# EAGLE library part WM8731_JMP/6P/DIP (library VGA_sound)
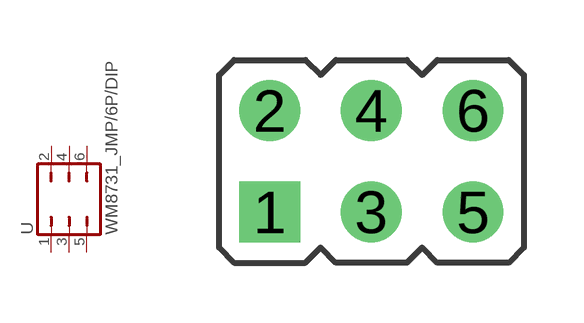
[diagram p4: symbol with the pads of WM8731_JMP/6P/DIP; footprint WM8731_JMP/6P/DIP]

Designator prefix -

## WM8731_JMP/6P/DIP  [WM8731_JMP/6P/DIP]
1  1  pas
2  2  pas
3  3  pas
4  4  pas
5  5  pas
6  6  pas

## Footprint WM8731_JMP/6P/DIP (pad centres in mm)
drill 0.914 pad 1.524 square: 1 -2.54,-1.27
drill 0.914 pad 1.524: 2 -2.54,1.27; 3 0,-1.27; 4 0,1.27; 5 2.54,-1.27; 6 2.54,1.27